# EAGLE library part IR2101PBF (library IR2101PBF)
Gate Drivers HI LO SIDE DRVR 600V 130mA 50ns Source: Datasheet <https://www.infineon.com/cms/en/product/power/gate-driver-ics/?>
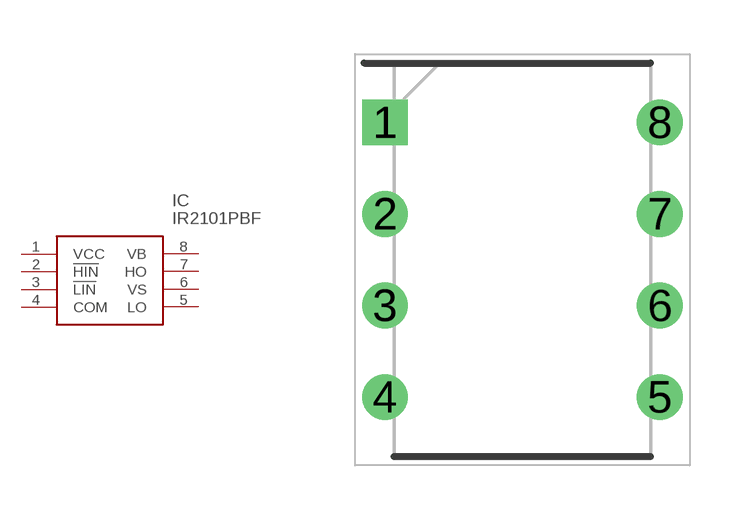
[diagram p0: symbol with the pads of DIP762W56P254L988H533Q8N; footprint DIP762W56P254L988H533Q8N]

Designator prefix IC

## IR2101PBF (Description: Gate Drivers HI LO SIDE DRVR 600V 130mA 50ns; Height: 5.33mm; Manufacturer_Name: Infineon; Manufacturer_Part_Number: IR2101PBF; Mouser_Part_Number: 942-IR2101PBF; Mouser_Price-Stock: https://www.mouser.co.uk/ProductDetail/Infineon-Technologies/IR2101PBF?qs=dQmlx5f5cRISttR4zG0olw%3D%3D)  [DIP762W56P254L988H533Q8N]
1  VCC
2  !HIN
3  !LIN
4  COM
5  LO
6  VS
7  HO
8  VB

## Footprint DIP762W56P254L988H533Q8N (pad centres in mm)
8 Lead PDIP
drill 0.758 pad 1.158 square: 1 -3.81,3.81
drill 0.758 pad 1.158: 2 -3.81,1.27; 3 -3.81,-1.27; 4 -3.81,-3.81; 5 3.81,-3.81; 6 3.81,-1.27; 7 3.81,1.27; 8 3.81,3.81